# Altium schematic symbol library EC11E15244B2.SchLib: 1 symbol
Pins are listed as number, name and electrical type; pins without a type are passive.

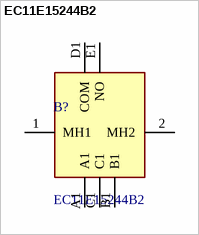
[diagram p0: symbol EC11E15244B2]

## EC11E15244B2
designator B?
Rotary Encoder Mechanical 15 Quadrature (Incremental) Vertical; Manufacturer_Name: ALPS Electric; Geometry.Height: 24.5mm; TME Electronic Components Part Number: *; TME Electronic Components Price/Stock: *; Manufacturer_Part_Number: EC11E15244B2; Datasheet Link: https://tech.alpsalpine.com/e/products/detail/EC11E15244B2/
footprint EC11E15244B2
pins: 1 MH1, 2 MH2, A1, B1, C1, D1 COM, E1 NO